# EAGLE library part TPS6103*? (library XLibrary)
SYNCHRONOUS BOOST CONVERTER
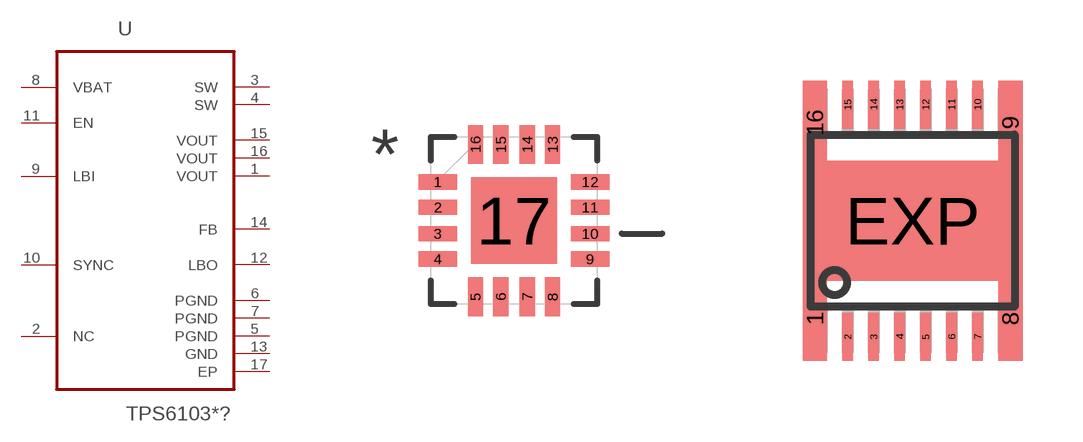
[diagram p6: symbol with the pads of QFN65P400X400X100-17N; footprints QFN65P400X400X100-17N, HTSSOP16PWP]

Designator prefix U

## TPS61030RSA (MPN: TPS61030RSAR), TPS61031RSA (MPN: TPS61031RSAR), TPS61032RSA (MPN: TPS61032RSAR)  [QFN65P400X400X100-17N]
1  VOUT  out
2  NC  nc
3  SW  in
4  SW  in
5  PGND  pwr
6  PGND  pwr
7  PGND  pwr
8  VBAT  pwr
9  LBI  in
10  SYNC  in
11  EN  in
12  LBO  out
13  GND  pwr
14  FB  in
15  VOUT  out
16  VOUT  out
17  EP  pwr

## TPS61030PWP (MPN: TPS61030PWP), TPS61031PWP (MPN: TPS61031PWP), TPS61032PWP (MPN: TPS61032PWP)  [HTSSOP16PWP]
1  SW  in
2  SW  in
3  PGND  pwr
4  PGND  pwr
5  PGND  pwr
6  VBAT  pwr
7  LBI  in
8  SYNC  in
9  EN  in
10  LBO  out
11  GND  pwr
12  FB  in
13  VOUT  out
14  VOUT  out
15  VOUT  out
16  NC  nc
EXP  EP  pwr

## Footprint QFN65P400X400X100-17N (pad centres in mm)
smd 0.965 x 0.381: 1 -1.905,0.965; 2 -1.905,0.33; 3 -1.905,-0.33; 4 -1.905,-0.965; 9 1.905,-0.965; 10 1.905,-0.33; 11 1.905,0.33; 12 1.905,0.965
smd 0.381 x 0.965: 5 -0.965,-1.905; 6 -0.33,-1.905; 7 0.33,-1.905; 8 0.965,-1.905; 13 0.965,1.905; 14 0.33,1.905; 15 -0.33,1.905; 16 -0.965,1.905
smd 2.159 x 2.159: 17 0,0

## Footprint HTSSOP16PWP (pad centres in mm)
TPS40055PWP (R-PDSO-G**) PowerPAD (TM) 16 pol. PLASTIC SMALL-OUTLINE PACKAGE Source: www.ti.com ... TPS40055 package.pdf & slma002.pdf
smd 0.61 x 2.1: 1 -2.445,-2.45; 8 2.445,-2.45; 9 2.445,2.45; 16 -2.445,2.45
smd 0.27 x 1.2: 2 -1.625,-2.9; 3 -0.975,-2.9; 4 -0.325,-2.9; 5 0.325,-2.9; 6 0.975,-2.9; 7 1.625,-2.9; 10 1.625,2.9; 11 0.975,2.9; 12 0.325,2.9; 13 -0.325,2.9; 14 -0.975,2.9; 15 -1.625,2.9
smd 5.5 x 3: EXP 0,0